# Altium footprint library IDC2.54.PcbLib: 17 footprints (part 1 of 2)
Each footprint in its own frame and in the unit in brackets; x right, y up, seen from the top. Pads: shape width x height; smd on the part's side, far side on the other; paste and mask are expansions set on the pad; w line width, h text height; cw(c..) or ccw(c..) is an arc to the next point about the centre after c.
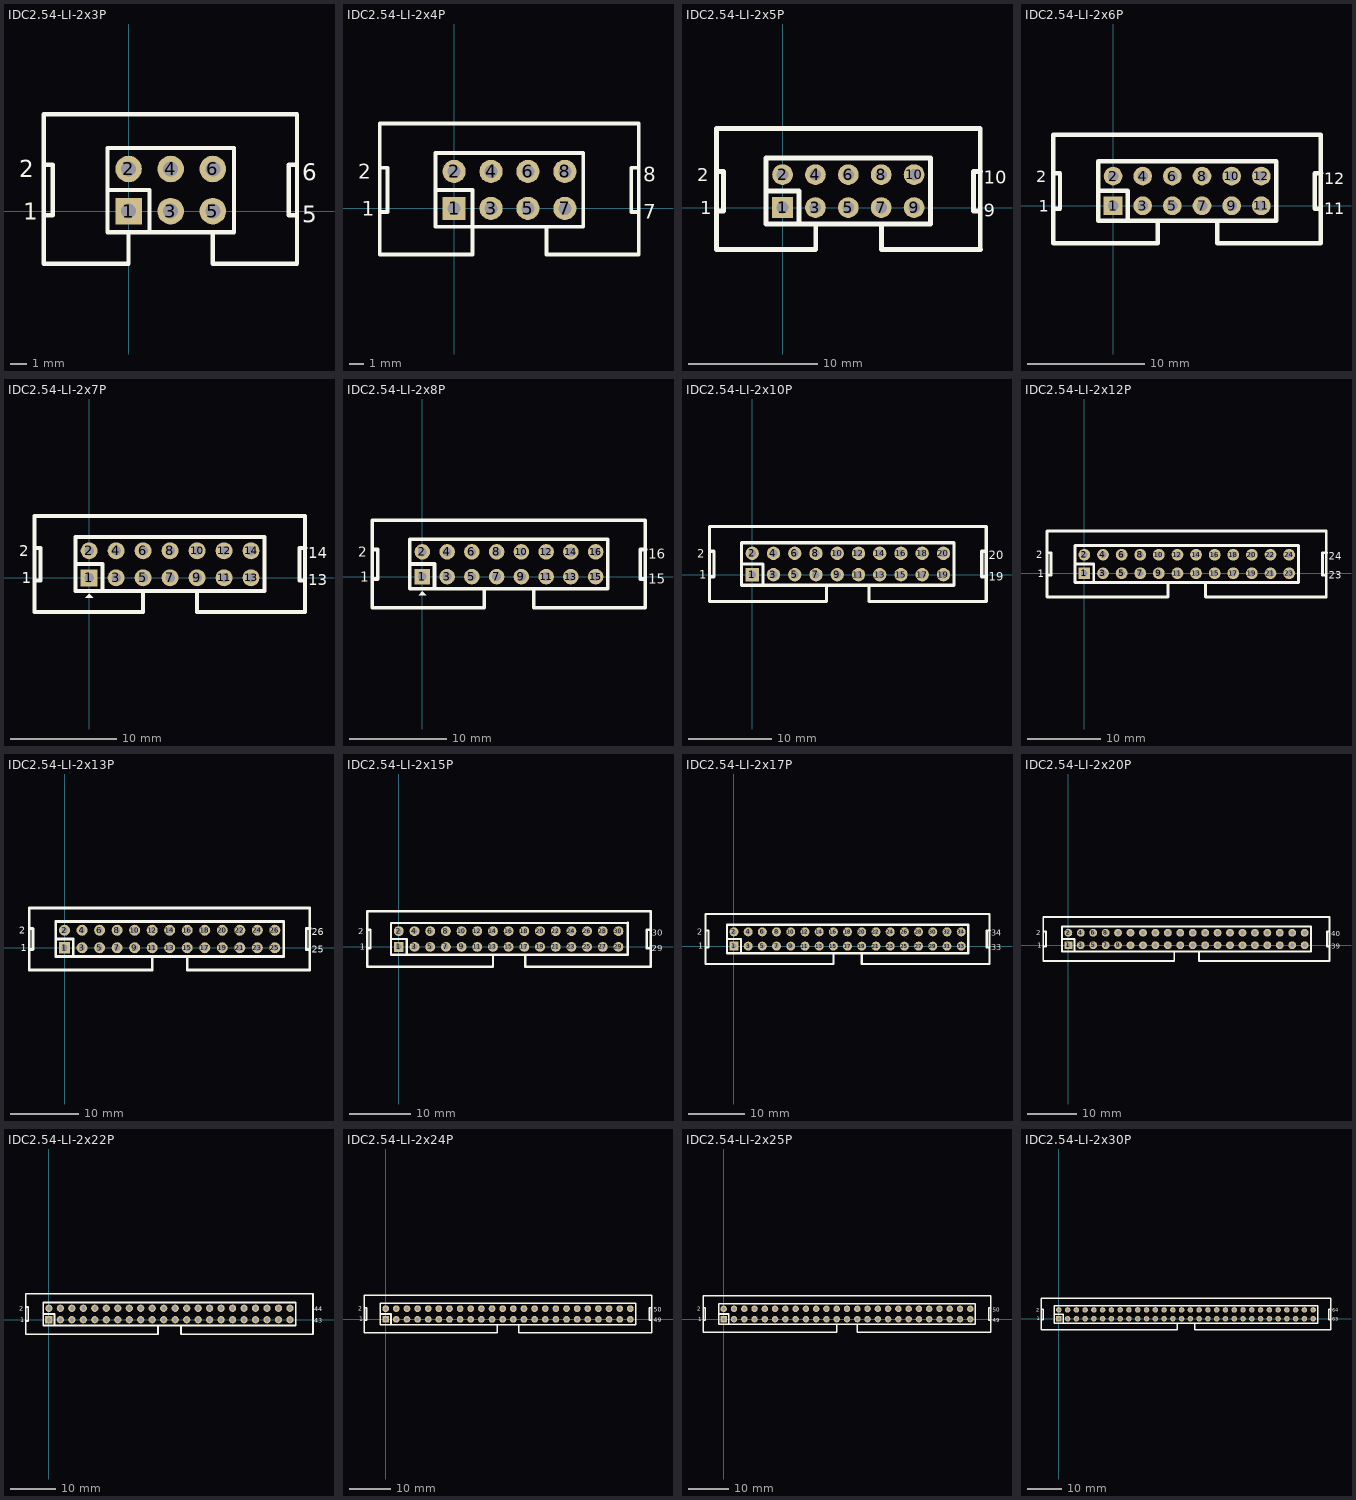
[diagram p0: the footprints below, top view; thin cyan lines are the x and y axes]

## IDC2.54-LI-2x3P [mm] "6P简易牛角座"
pads (6):
  rect 1.6x1.6 hole 0.9: 1(0,0)
  round 1.6 hole 0.9: 2(0,2.54) 3(2.54,0) 4(2.54,2.54) 5(5.08,0) 6(5.08,2.54)
Top Overlay:
  lines w0.254: -5.11,-0.254 -4.572,-0.254 -4.572,2.794 -5.08,2.794 ; -1.27,1.27 1.27,1.27 1.27,-1.27 ; 0,-1.27 0,-3.175 -5.11,-3.175 -5.11,5.842 10.16,5.842 10.16,-3.175 5.08,-3.175 5.08,-1.27 ; 10.033,2.794 9.652,2.794 9.652,-0.254 10.16,-0.254 ; -1.27,-1.27 6.35,-1.27 6.35,3.81 -1.27,3.81 -1.27,-1.27
  text "1" at -6.35,-0.508 h1.02
  text "2" at -6.604,2.032 h1.02
  text "6" at 10.465,1.829 h1.02
  text "5" at 10.465,-0.711 h1.02
Bottom Overlay:
  lines w0.6: -1.041,1.27 6.35,1.27 ; 1.27,-1.016 1.27,3.353 ; 3.81,-1.016 3.81,3.353
3D body: height 9.17, standoff -3, extent -5.08,-3.08 10.16,5.77

## IDC2.54-LI-2x4P [mm] "8P简易牛角座"
pads (8):
  rect 1.6x1.6 hole 0.9: 1(0,0)
  round 1.6 hole 0.9: 2(0,2.54) 3(2.54,0) 4(2.54,2.54) 5(5.08,0) 6(5.08,2.54) 7(7.62,0) 8(7.62,2.54)
Top Overlay:
  lines w0.254: -5.11,-0.254 -4.572,-0.254 -4.572,2.794 -5.08,2.794 ; -1.27,1.27 1.27,1.27 1.27,-1.27 1.27,-3.175 -5.11,-3.175 -5.11,5.842 12.7,5.842 12.7,-3.175 6.35,-3.175 6.35,-1.27 ; 12.573,2.794 12.192,2.794 12.192,-0.254 12.7,-0.254 ; -1.27,-1.27 8.89,-1.27 8.89,3.81 -1.27,3.81 -1.27,-1.27
  text "7" at 13.005,-0.711 h1.02
  text "8" at 13.005,1.829 h1.02
  text "1" at -6.35,-0.508 h1.02
  text "2" at -6.604,2.032 h1.02
Bottom Overlay:
  lines w0.6: -1.041,1.27 8.89,1.27 ; 1.27,-1.016 1.27,3.353 ; 3.81,-1.016 3.81,3.353 ; 6.35,-1.016 6.35,3.353
3D body: height 9.17, standoff -3, extent -5.08,-3.08 12.7,5.77

## IDC2.54-LI-2x5P [mm] "10P简易牛角座"
pads (10):
  rect 1.6x1.6 hole 0.9: 1(0,0)
  round 1.6 hole 0.9: 2(0,2.54) 3(2.54,0) 4(2.54,2.54) 5(5.08,0) 6(5.08,2.54) 7(7.62,0) 8(7.62,2.54) 9(10.16,0) 10(10.16,2.54)
Top Overlay:
  lines w0.381: -5.11,-0.254 -4.572,-0.254 -4.572,2.794 -5.08,2.794 ; -1.27,1.27 1.27,1.27 1.27,-1.27 ; 2.565,-1.27 2.565,-3.23 -5.11,-3.23 -5.11,6.096 15.265,6.096 15.265,-3.234 ; 7.645,-1.27 7.645,-3.23 15.27,-3.23 ; 15.24,-0.254 14.732,-0.254 14.732,2.794 15.27,2.794 ; -1.27,-1.27 11.43,-1.27 11.43,3.81 -1.27,3.81 -1.27,-1.27
  text "2" at -6.604,2.032 h1.02
  text "1" at -6.35,-0.508 h1.02
  text "9" at 15.545,-0.711 h1.02
  text "10" at 15.545,1.829 h1.02
Bottom Overlay:
  lines w0.6: -1.041,1.27 11,1.27 ; 1.27,-1.016 1.27,3.353 ; 3.81,-1.016 3.81,3.353 ; 6.35,-1.016 6.35,3.353 ; 8.89,-1.016 8.89,3.353
3D body: height 9.17, standoff -3, extent -5.08,-3.08 15.24,5.77

## IDC2.54-LI-2x6P [mm] "12P简易牛角座"
pads (12):
  rect 1.6x1.6 hole 0.9: 1(-0.025,0)
  round 1.6 hole 0.9: 2(-0.025,2.54) 3(2.515,0) 4(2.515,2.54) 5(5.055,0) 6(5.055,2.54) 7(7.595,0) 8(7.595,2.54) 9(10.135,0) 10(10.135,2.54) 11(12.675,0) 12(12.675,2.54)
Top Overlay:
  lines w0.254: -5.135,-0.254 -4.597,-0.254 -4.597,2.794 -5.105,2.794
  lines w0.381: -5.11,-0.254 -4.572,-0.254 -4.572,2.794 -5.08,2.794 ; -1.295,1.27 1.245,1.27 1.245,-1.27 ; 3.81,-1.27 3.81,-3.23 -5.135,-3.23 -5.135,6.096 17.78,6.096 17.78,-3.23 8.89,-3.23 8.89,-1.27 ; 17.78,-0.254 17.272,-0.254 17.272,2.794 17.81,2.794 ; -1.295,-1.27 13.945,-1.27 13.945,3.81 -1.295,3.81 -1.295,-1.27
  text "12" at 18.059,1.829 h1.02
  text "11" at 18.059,-0.711 h1.02
  text "2" at -6.629,2.032 h1.02
  text "1" at -6.375,-0.508 h1.02
Bottom Overlay:
  lines w0.6: -1.067,1.27 13.515,1.27 ; 1.245,-1.016 1.245,3.353 ; 3.785,-1.016 3.785,3.353 ; 6.325,-1.016 6.325,3.353 ; 8.865,-1.016 8.865,3.353 ; 11.405,-1.016 11.405,3.353
3D body: height 9.17, standoff -3, extent -5.105,-3.08 17.755,5.77

## IDC2.54-LI-2x7P [mm] "14P简易牛角座"
pads (14):
  rect 1.6x1.6 hole 0.9: 1(0,0)
  round 1.6 hole 0.9: 2(0,2.54) 3(2.54,0) 4(2.54,2.54) 5(5.08,0) 6(5.08,2.54) 7(7.62,0) 8(7.62,2.54) 9(10.16,0) 10(10.16,2.54) 11(12.7,0) 12(12.7,2.54) 13(15.24,0) 14(15.24,2.54)
Top Overlay:
  region: -0.381,-1.905 0.381,-1.905 0,-1.524
  lines w0.381: -5.11,-0.254 -4.572,-0.254 -4.572,2.794 -5.08,2.794 ; -1.295,1.295 1.245,1.295 1.245,-1.245 ; 5.08,-1.245 5.08,-3.205 -5.135,-3.205 -5.135,5.795 20.32,5.795 20.32,-3.205 10.16,-3.205 10.16,-1.245 ; 20.32,-0.254 19.812,-0.254 19.812,2.794 20.35,2.794 ; -1.295,-1.245 -1.295,3.835 16.51,3.835 16.51,-1.245 -1.295,-1.245
  text "2" at -6.604,2.032 h1.02
  text "1" at -6.35,-0.508 h1.02
  text "14" at 20.625,1.829 h1.02
  text "13" at 20.625,-0.711 h1.02
Bottom Overlay:
  lines w0.6: -1.041,1.27 16.51,1.27 ; 1.27,-0.813 1.27,3.556 ; 3.81,-0.813 3.81,3.556 ; 6.35,-0.813 6.35,3.556 ; 8.89,-0.813 8.89,3.556 ; 11.43,-0.813 11.43,3.556 ; 13.97,-0.813 13.97,3.556
3D body: height 9.17, standoff -3, extent -5.08,-3.08 20.32,5.77

## IDC2.54-LI-2x8P [mm] "16P简易牛角座"
pads (16):
  rect 1.6x1.6 hole 0.9: 1(0,0)
  round 1.6 hole 0.9: 2(0,2.54) 3(2.54,0) 4(2.54,2.54) 5(5.08,0) 6(5.08,2.54) 7(7.62,0) 8(7.62,2.54) 9(10.16,0) 10(10.16,2.54) 11(12.7,0) 12(12.7,2.54) 13(15.24,0) 14(15.24,2.54) 15(17.78,0) 16(17.78,2.54)
Top Overlay:
  region: -0.381,-1.905 0.381,-1.905 0,-1.524
  lines w0.381: -5.11,-0.254 -4.572,-0.254 -4.572,2.794 -5.08,2.794 ; -1.295,1.295 1.245,1.295 1.245,-1.245 ; 6.35,-1.245 6.35,-3.205 -5.135,-3.205 -5.135,5.795 22.865,5.795 22.865,-3.205 11.43,-3.205 11.43,-1.245 ; 22.86,-0.254 22.352,-0.254 22.352,2.794 22.89,2.794 ; -1.295,-1.245 -1.295,3.835 19.025,3.835 19.025,-1.245 -1.295,-1.245
  text "15" at 23.165,-0.711 h1.02
  text "16" at 23.165,1.829 h1.02
  text "1" at -6.35,-0.508 h1.02
  text "2" at -6.604,2.032 h1.02
Bottom Overlay:
  lines w0.6: -1.041,1.27 18.5,1.27 ; 1.27,-0.813 1.27,3.556 ; 3.81,-0.813 3.81,3.556 ; 6.35,-0.813 6.35,3.556 ; 8.89,-0.813 8.89,3.556 ; 11.43,-0.813 11.43,3.556 ; 13.97,-0.813 13.97,3.556 ; 16.51,-0.813 16.51,3.556
3D body: height 9.17, standoff -3, extent -5.08,-3.08 22.86,5.77

## IDC2.54-LI-2x10P [mm] "20P简易牛角座"
pads (20):
  rect 1.6x1.6 hole 0.9: 1(0,0)
  round 1.6 hole 0.9: 2(0,2.54) 3(2.54,0) 4(2.54,2.54) 5(5.08,0) 6(5.08,2.54) 7(7.62,0) 8(7.62,2.54) 9(10.16,0) 10(10.16,2.54) 11(12.7,0) 12(12.7,2.54) 13(15.24,0) 14(15.24,2.54) 15(17.78,0) 16(17.78,2.54) 17(20.32,0) 18(20.32,2.54) 19(22.86,0) 20(22.86,2.54)
Top Overlay:
  lines w0.381: -5.11,-0.254 -4.572,-0.254 -4.572,2.794 -5.08,2.794 ; -1.27,1.27 1.27,1.27 1.27,-1.27 ; 8.89,-1.27 8.89,-3.23 -5.11,-3.23 -5.11,5.77 27.97,5.77 27.97,-3.23 13.97,-3.23 13.97,-1.27 ; 27.94,-0.254 27.432,-0.254 27.432,2.794 27.97,2.794 ; -1.27,-1.27 24.13,-1.27 24.13,3.81 -1.27,3.81 -1.27,-1.27
  text "19" at 28.245,-0.711 h1.02
  text "20" at 28.245,1.829 h1.02
  text "1" at -6.35,-0.508 h1.02
  text "2" at -6.604,2.032 h1.02
Bottom Overlay:
  lines w0.6: -1.041,1.27 23.5,1.27 ; 1.27,-0.813 1.27,3.556 ; 3.81,-0.813 3.81,3.556 ; 6.35,-0.813 6.35,3.556 ; 8.89,-0.813 8.89,3.556 ; 11.43,-0.813 11.43,3.556 ; 13.97,-0.813 13.97,3.556 ; 16.51,-0.813 16.51,3.556 ; 19.05,-0.813 19.05,3.556 ; 21.59,-0.813 21.59,3.556
3D body: height 9.17, standoff -3, extent -5.08,-3.08 27.94,5.77

## IDC2.54-LI-2x12P [mm] "24P简易牛角座"
pads (24):
  rect 1.6x1.6 hole 0.9: 1(0,0)
  round 1.6 hole 0.9: 2(0,2.54) 3(2.54,0) 4(2.54,2.54) 5(5.08,0) 6(5.08,2.54) 7(7.62,0) 8(7.62,2.54) 9(10.16,0) 10(10.16,2.54) 11(12.7,0) 12(12.7,2.54) 13(15.24,0) 14(15.24,2.54) 15(17.78,0) 16(17.78,2.54) 17(20.32,0) 18(20.32,2.54) 19(22.86,0) 20(22.86,2.54) 21(25.4,0) 22(25.4,2.54) 23(27.94,0) 24(27.94,2.54)
Top Overlay:
  lines w0.381: -5.11,-0.254 -4.572,-0.254 -4.572,2.794 -5.08,2.794 ; -1.27,1.27 1.27,1.27 1.27,-1.27 ; 11.43,-1.27 11.43,-3.23 -5.11,-3.23 -5.11,5.77 33.02,5.77 33.02,-3.23 16.51,-3.23 16.51,-1.27 ; 29.207,3.81 -1.27,3.81 -1.27,-1.27 29.21,-1.27 29.21,3.813 ; 33.02,-0.254 32.512,-0.254 32.512,2.794 33.05,2.794
  text "23" at 33.325,-0.711 h1.02
  text "24" at 33.325,1.829 h1.02
  text "1" at -6.35,-0.508 h1.02
  text "2" at -6.604,2.032 h1.02
Bottom Overlay:
  lines w0.6: -1.041,1.27 28.5,1.27 ; 1.27,-0.813 1.27,3.556 ; 3.81,-0.813 3.81,3.556 ; 6.35,-0.813 6.35,3.556 ; 8.89,-0.813 8.89,3.556 ; 11.43,-0.813 11.43,3.556 ; 13.97,-0.813 13.97,3.556 ; 16.51,-0.813 16.51,3.556 ; 19.05,-0.813 19.05,3.556 ; 21.59,-0.813 21.59,3.556 ; 24.13,-0.813 24.13,3.556 ; 26.67,-0.813 26.67,3.556
3D body: height 9.17, standoff -3, extent -5.08,-3.08 33.02,5.77

## IDC2.54-LI-2x13P [mm] "26P简易牛角座"
pads (26):
  rect 1.6x1.6 hole 0.9: 1(0,0)
  round 1.6 hole 0.9: 2(0,2.54) 3(2.54,0) 4(2.54,2.54) 5(5.08,0) 6(5.08,2.54) 7(7.62,0) 8(7.62,2.54) 9(10.16,0) 10(10.16,2.54) 11(12.7,0) 12(12.7,2.54) 13(15.24,0) 14(15.24,2.54) 15(17.78,0) 16(17.78,2.54) 17(20.32,0) 18(20.32,2.54) 19(22.86,0) 20(22.86,2.54) 21(25.4,0) 22(25.4,2.54) 23(27.94,0) 24(27.94,2.54) 25(30.48,0) 26(30.48,2.54)
Top Overlay:
  lines w0.381: -5.11,-0.254 -4.572,-0.254 -4.572,2.794 -5.08,2.794 ; -1.27,1.27 1.27,1.27 1.27,-1.27 ; 12.7,-1.27 12.7,-3.23 -5.11,-3.23 -5.11,5.77 35.56,5.77 35.56,-3.23 17.78,-3.23 17.78,-1.27 ; 35.56,-0.254 35.052,-0.254 35.052,2.794 35.59,2.794 ; -1.27,-1.27 -1.27,3.81 31.75,3.81 31.75,-1.27 -1.27,-1.27
  text "25" at 35.865,-0.711 h1.02
  text "26" at 35.865,1.829 h1.02
  text "1" at -6.35,-0.508 h1.02
  text "2" at -6.604,2.032 h1.02
Bottom Overlay:
  lines w0.6: -1.041,1.27 31,1.27 ; 1.27,-0.813 1.27,3.556 ; 3.81,-0.813 3.81,3.556 ; 6.35,-0.813 6.35,3.556 ; 8.89,-0.813 8.89,3.556 ; 11.43,-0.813 11.43,3.556 ; 13.97,-0.813 13.97,3.556 ; 16.51,-0.813 16.51,3.556 ; 19.05,-0.813 19.05,3.556 ; 21.59,-0.813 21.59,3.556 ; 24.13,-0.813 24.13,3.556 ; 26.67,-0.813 26.67,3.556 ; 29.21,-0.813 29.21,3.556
3D body: height 9.17, standoff -3, extent -5.08,-3.08 35.56,5.77

## IDC2.54-LI-2x15P [mm] "30P简易牛角座"
pads (30):
  rect 1.6x1.6 hole 0.9: 1(0,0)
  round 1.6 hole 0.9: 2(0,2.54) 3(2.54,0) 4(2.54,2.54) 5(5.08,0) 6(5.08,2.54) 7(7.62,0) 8(7.62,2.54) 9(10.16,0) 10(10.16,2.54) 11(12.7,0) 12(12.7,2.54) 13(15.24,0) 14(15.24,2.54) 15(17.78,0) 16(17.78,2.54) 17(20.32,0) 18(20.32,2.54) 19(22.86,0) 20(22.86,2.54) 21(25.4,0) 22(25.4,2.54) 23(27.94,0) 24(27.94,2.54) 25(30.48,0) 26(30.48,2.54) 27(33.02,0) 28(33.02,2.54) 29(35.56,0) 30(35.56,2.54)
Top Overlay:
  lines w0.381: -5.11,-0.254 -4.572,-0.254 -4.572,2.794 -5.08,2.794 ; -1.27,1.27 1.27,1.27 1.27,-1.27 ; 15.24,-1.27 15.24,-3.23 -5.11,-3.23 -5.11,5.77 40.767,5.77 40.767,-3.23 20.447,-3.23 20.447,-1.27 ; 40.64,-0.254 40.132,-0.254 40.132,2.794 40.67,2.794 ; -1.27,-1.27 -1.27,3.81 37.084,3.912 37.084,-1.27 -1.27,-1.27
  text "2" at -6.604,2.032 h1.02
  text "1" at -6.35,-0.508 h1.02
  text "30" at 40.945,1.829 h1.02
  text "29" at 40.945,-0.711 h1.02
Bottom Overlay:
  lines w0.6: -1.041,1.27 36,1.27 ; 1.27,-0.813 1.27,3.556 ; 3.81,-0.813 3.81,3.556 ; 6.35,-0.813 6.35,3.556 ; 8.89,-0.813 8.89,3.556 ; 11.43,-0.813 11.43,3.556 ; 13.97,-0.813 13.97,3.556 ; 16.51,-0.813 16.51,3.556 ; 19.05,-0.813 19.05,3.556 ; 21.59,-0.813 21.59,3.556 ; 24.13,-0.813 24.13,3.556 ; 26.67,-0.813 26.67,3.556 ; 29.21,-0.813 29.21,3.556 ; 31.75,-0.813 31.75,3.556 ; 34.29,-0.813 34.29,3.556
3D body: height 9.17, standoff -3, extent -5.08,-3.08 40.64,5.77

## IDC2.54-LI-2x17P [mm] "34P简易牛角座"
pads (34):
  rect 1.6x1.6 hole 0.9: 1(0,0)
  round 1.6 hole 0.9: 2(0,2.54) 3(2.54,0) 4(2.54,2.54) 5(5.08,0) 6(5.08,2.54) 7(7.62,0) 8(7.62,2.54) 9(10.16,0) 10(10.16,2.54) 11(12.7,0) 12(12.7,2.54) 13(15.24,0) 14(15.24,2.54) 15(17.78,0) 16(17.78,2.54) 17(20.32,0) 18(20.32,2.54) 19(22.86,0) 20(22.86,2.54) 21(25.4,0) 22(25.4,2.54) 23(27.94,0) 24(27.94,2.54) 25(30.48,0) 26(30.48,2.54) 27(33.02,0) 28(33.02,2.54) 29(35.56,0) 30(35.56,2.54) 31(38.1,0) 32(38.1,2.54) 33(40.64,0) 34(40.64,2.54)
Top Overlay:
  lines w0.381: -5.11,-0.254 -4.572,-0.254 -4.572,2.794 -5.08,2.794 ; -1.27,1.27 1.27,1.27 1.27,-1.27 ; 17.78,-1.27 17.78,-3.23 -5.11,-3.23 -5.11,5.77 45.72,5.77 45.72,-3.23 22.86,-3.23 22.86,-1.27 ; 45.72,-0.254 45.212,-0.254 45.212,2.794 45.75,2.794 ; -1.27,-1.27 -1.27,3.81 41.91,3.81 41.91,-1.27 -1.27,-1.27
  text "2" at -6.604,2.032 h1.02
  text "1" at -6.35,-0.508 h1.02
  text "34" at 46.025,1.829 h1.02
  text "33" at 46.025,-0.711 h1.02
Bottom Overlay:
  lines w0.6: -1.041,1.27 41.47,1.27 ; 1.27,-0.813 1.27,3.556 ; 3.81,-0.813 3.81,3.556 ; 6.35,-0.813 6.35,3.556 ; 8.89,-0.813 8.89,3.556 ; 11.43,-0.813 11.43,3.556 ; 13.97,-0.813 13.97,3.556 ; 16.51,-0.813 16.51,3.556 ; 19.05,-0.813 19.05,3.556 ; 21.59,-0.813 21.59,3.556 ; 24.13,-0.813 24.13,3.556 ; 26.67,-0.813 26.67,3.556 ; 29.21,-0.813 29.21,3.556 ; 31.75,-0.813 31.75,3.556 ; 34.29,-0.813 34.29,3.556 ; 36.83,-0.813 36.83,3.556 ; 39.37,-0.813 39.37,3.556
3D body: height 9.17, standoff -3, extent -5.08,-3.08 45.72,5.77

## IDC2.54-LI-2x20P [mm] "40P简易牛角座"
pads (40):
  rect 1.6x1.6 hole 0.9: 1(0,0)
  round 1.6 hole 0.9: 2(0,2.54) 3(2.54,0) 4(2.54,2.54) 5(5.08,0) 6(5.08,2.54) 7(7.62,0) 8(7.62,2.54) 9(10.16,0) 10(10.16,2.54) 11(12.7,0) 12(12.7,2.54) 13(15.24,0) 14(15.24,2.54) 15(17.78,0) 16(17.78,2.54) 17(20.32,0) 18(20.32,2.54) 19(22.86,0) 20(22.86,2.54) 21(25.4,0) 22(25.4,2.54) 23(27.94,0) 24(27.94,2.54) 25(30.48,0) 26(30.48,2.54) 27(33.02,0) 28(33.02,2.54) 29(35.56,0) 30(35.56,2.54) 31(38.1,0) 32(38.1,2.54) 33(40.64,0) 34(40.64,2.54) 35(43.18,0) 36(43.18,2.54) 37(45.72,0) 38(45.72,2.54) 39(48.26,0) 40(48.26,2.54)
Top Overlay:
  lines w0.381: -5.11,-0.254 -4.572,-0.254 -4.572,2.794 -5.08,2.794 ; -1.27,1.27 1.27,1.27 1.27,-1.27 ; 21.615,-1.27 21.615,-3.23 -5.11,-3.23 -5.11,5.77 53.37,5.77 53.37,-3.23 ; 26.695,-1.27 26.695,-3.23 53.365,-3.23 ; 49.479,-1.27 -1.27,-1.27 -1.27,3.81 49.53,3.81 ; 49.53,1.27 49.53,-1.27 ; 53.34,-0.254 52.832,-0.254 52.832,2.794 53.37,2.794 ; 49.53,-1.27 49.53,3.81 ; 49.53,-1.27 49.53,3.81
  text "2" at -6.604,2.032 h1.02
  text "1" at -6.35,-0.508 h1.02
  text "40" at 53.645,1.829 h1.02
  text "39" at 53.645,-0.711 h1.02
Bottom Overlay:
  lines w0.6: -1.041,1.27 48.62,1.27 ; 1.27,-0.813 1.27,3.556 ; 3.81,-0.813 3.81,3.556 ; 6.35,-0.813 6.35,3.556 ; 8.89,-0.813 8.89,3.556 ; 11.43,-0.813 11.43,3.556 ; 13.97,-0.813 13.97,3.556 ; 16.51,-0.813 16.51,3.556 ; 19.05,-0.813 19.05,3.556 ; 21.59,-0.813 21.59,3.556 ; 24.13,-0.813 24.13,3.556 ; 26.67,-0.813 26.67,3.556 ; 29.21,-0.813 29.21,3.556 ; 31.75,-0.813 31.75,3.556 ; 34.29,-0.813 34.29,3.556 ; 36.83,-0.813 36.83,3.556 ; 39.37,-0.813 39.37,3.556 ; 41.91,-0.813 41.91,3.556 ; 44.45,-0.813 44.45,3.556 ; 46.99,-0.838 46.99,3.531
3D body: height 9.17, standoff -3, extent -5.08,-3.08 53.34,5.77

## IDC2.54-LI-2x22P [mm] "44P简易牛角座"
pads (44):
  rect 1.6x1.6 hole 0.9: 1(0,0)
  round 1.6 hole 0.9: 2(0,2.54) 3(2.54,0) 4(2.54,2.54) 5(5.08,0) 6(5.08,2.54) 7(7.62,0) 8(7.62,2.54) 9(10.16,0) 10(10.16,2.54) 11(12.7,0) 12(12.7,2.54) 13(15.24,0) 14(15.24,2.54) 15(17.78,0) 16(17.78,2.54) 17(20.32,0) 18(20.32,2.54) 19(22.86,0) 20(22.86,2.54) 21(25.4,0) 22(25.4,2.54) 23(27.94,0) 24(27.94,2.54) 25(30.48,0) 26(30.48,2.54) 27(33.02,0) 28(33.02,2.54) 29(35.56,0) 30(35.56,2.54) 31(38.1,0) 32(38.1,2.54) 33(40.64,0) 34(40.64,2.54) 35(43.18,0) 36(43.18,2.54) 37(45.72,0) 38(45.72,2.54) 39(48.26,0) 40(48.26,2.54) 41(50.8,0) 42(50.8,2.54) 43(53.34,0) 44(53.34,2.54)
Top Overlay:
  lines w0.381: -5.11,-0.254 -4.572,-0.254 -4.572,2.794 -5.08,2.794 ; -1.27,1.27 1.27,1.27 1.27,-1.27 ; 24.155,-1.27 24.155,-3.23 -5.11,-3.23 -5.11,5.77 58.42,5.77 58.42,-3.23 29.235,-3.23 29.235,-1.27 ; -1.27,-1.27 -1.27,3.81 54.61,3.81 54.61,-1.27 -1.27,-1.27
  text "43" at 58.725,-0.711 h1.02
  text "44" at 58.725,1.829 h1.02
  text "1" at -6.35,-0.508 h1.02
  text "2" at -6.604,2.032 h1.02
Bottom Overlay:
  lines w0.6: -1.041,1.27 54.208,1.27 ; 1.27,-0.813 1.27,3.556 ; 3.81,-0.813 3.81,3.556 ; 6.35,-0.813 6.35,3.556 ; 8.89,-0.813 8.89,3.556 ; 11.43,-0.813 11.43,3.556 ; 13.97,-0.813 13.97,3.556 ; 16.51,-0.813 16.51,3.556 ; 19.05,-0.813 19.05,3.556 ; 21.59,-0.813 21.59,3.556 ; 24.13,-0.813 24.13,3.556 ; 26.67,-0.813 26.67,3.556 ; 29.21,-0.813 29.21,3.556 ; 31.75,-0.813 31.75,3.556 ; 34.29,-0.813 34.29,3.556 ; 36.83,-0.813 36.83,3.556 ; 39.37,-0.813 39.37,3.556 ; 41.91,-0.813 41.91,3.556 ; 44.45,-0.813 44.45,3.556 ; 46.99,-0.838 46.99,3.531 ; 49.53,-0.838 49.53,3.531 ; 52.07,-0.838 52.07,3.531
3D body: height 9.17, standoff -3, extent -5.08,-3.08 58.42,5.77

## IDC2.54-LI-2x24P [mm] "48P简易牛角座"
pads (48):
  rect 1.6x1.6 hole 0.9: 1(0,0)
  round 1.6 hole 0.9: 2(0,2.54) 3(2.54,0) 4(2.54,2.54) 5(5.08,0) 6(5.08,2.54) 7(7.62,0) 8(7.62,2.54) 9(10.16,0) 10(10.16,2.54) 11(12.7,0) 12(12.7,2.54) 13(15.24,0) 14(15.24,2.54) 15(17.78,0) 16(17.78,2.54) 17(20.32,0) 18(20.32,2.54) 19(22.86,0) 20(22.86,2.54) 21(25.4,0) 22(25.4,2.54) 23(27.94,0) 24(27.94,2.54) 25(30.48,0) 26(30.48,2.54) 27(33.02,0) 28(33.02,2.54) 29(35.56,0) 30(35.56,2.54) 31(38.1,0) 32(38.1,2.54) 33(40.64,0) 34(40.64,2.54) 35(43.18,0) 36(43.18,2.54) 37(45.72,0) 38(45.72,2.54) 39(48.26,0) 40(48.26,2.54) 41(50.8,0) 42(50.8,2.54) 43(53.34,0) 44(53.34,2.54) 45(55.88,0) 46(55.88,2.54) 47(58.42,0) 48(58.42,2.54)
Top Overlay:
  lines w0.381: -5.11,-0.254 -4.572,-0.254 -4.572,2.794 -5.08,2.794 ; -1.27,1.27 1.27,1.27 1.27,-1.27 ; 26.67,-1.27 26.67,-3.23 -5.11,-3.23 -5.11,5.77 63.5,5.77 63.5,-3.23 31.75,-3.23 31.75,-1.27 ; 63.5,-0.254 62.992,-0.254 62.992,2.794 63.53,2.794 ; -1.27,-1.27 49.479,-1.27 59.69,-1.27 59.69,3.81 49.53,3.81 -1.27,3.81 -1.27,-1.27
  text "49" at 64.008,-0.711 h1.02
  text "50" at 64.008,1.829 h1.02
  text "2" at -6.604,2.032 h1.02
  text "1" at -6.35,-0.508 h1.02
Bottom Overlay:
  lines w0.6: -1.041,1.27 59.436,1.27 ; 1.27,-0.813 1.27,3.556 ; 3.81,-0.813 3.81,3.556 ; 6.35,-0.813 6.35,3.556 ; 8.89,-0.813 8.89,3.556 ; 11.43,-0.813 11.43,3.556 ; 13.97,-0.813 13.97,3.556 ; 16.51,-0.813 16.51,3.556 ; 19.05,-0.813 19.05,3.556 ; 21.59,-0.813 21.59,3.556 ; 24.13,-0.813 24.13,3.556 ; 26.67,-0.813 26.67,3.556 ; 29.21,-0.813 29.21,3.556 ; 31.75,-0.813 31.75,3.556 ; 34.29,-0.813 34.29,3.556 ; 36.83,-0.813 36.83,3.556 ; 39.37,-0.813 39.37,3.556 ; 41.91,-0.813 41.91,3.556 ; 44.45,-0.813 44.45,3.556 ; 46.99,-0.838 46.99,3.531 ; 49.53,-0.813 49.53,3.556 ; 52.07,-0.813 52.07,3.556 ; 54.61,-0.813 54.61,3.556 ; 57.15,-0.813 57.15,3.556
3D body: height 9.17, standoff -8, extent -5.08,-3.08 63.5,5.77

## IDC2.54-LI-2x25P [mm] "50P简易牛角座"
pads (50):
  rect 1.6x1.6 hole 0.9: 1(0,0)
  round 1.6 hole 0.9: 2(0,2.54) 3(2.54,0) 4(2.54,2.54) 5(5.08,0) 6(5.08,2.54) 7(7.62,0) 8(7.62,2.54) 9(10.16,0) 10(10.16,2.54) 11(12.7,0) 12(12.7,2.54) 13(15.24,0) 14(15.24,2.54) 15(17.78,0) 16(17.78,2.54) 17(20.32,0) 18(20.32,2.54) 19(22.86,0) 20(22.86,2.54) 21(25.4,0) 22(25.4,2.54) 23(27.94,0) 24(27.94,2.54) 25(30.48,0) 26(30.48,2.54) 27(33.02,0) 28(33.02,2.54) 29(35.56,0) 30(35.56,2.54) 31(38.1,0) 32(38.1,2.54) 33(40.64,0) 34(40.64,2.54) 35(43.18,0) 36(43.18,2.54) 37(45.72,0) 38(45.72,2.54) 39(48.26,0) 40(48.26,2.54) 41(50.8,0) 42(50.8,2.54) 43(53.34,0) 44(53.34,2.54) 45(55.88,0) 46(55.88,2.54) 47(58.42,0) 48(58.42,2.54) 49(60.96,0) 50(60.96,2.54)
Top Overlay:
  lines w0.381: -5.11,-0.254 -4.572,-0.254 -4.572,2.794 -5.08,2.794 ; -1.27,1.27 1.27,1.27 1.27,-1.27 ; 27.94,-1.27 27.94,-3.23 -5.11,-3.23 -5.11,5.77 66.04,5.77 66.04,-3.23 33.02,-3.23 33.02,-1.27 ; 66.04,-0.254 65.532,-0.254 65.532,2.794 66.07,2.794 ; -1.27,-1.27 49.479,-1.27 62.23,-1.27 62.23,3.81 49.53,3.81 -1.27,3.81 -1.27,-1.27
  text "2" at -6.604,2.032 h1.02
  text "1" at -6.35,-0.508 h1.02
  text "50" at 66.548,1.829 h1.02
  text "49" at 66.548,-0.711 h1.02
Bottom Overlay:
  lines w0.6: -1.041,1.27 61.976,1.27 ; 1.27,-0.813 1.27,3.556 ; 3.81,-0.813 3.81,3.556 ; 6.35,-0.813 6.35,3.556 ; 8.89,-0.813 8.89,3.556 ; 11.43,-0.813 11.43,3.556 ; 13.97,-0.813 13.97,3.556 ; 16.51,-0.813 16.51,3.556 ; 19.05,-0.813 19.05,3.556 ; 21.59,-0.813 21.59,3.556 ; 24.13,-0.813 24.13,3.556 ; 26.67,-0.813 26.67,3.556 ; 29.21,-0.813 29.21,3.556 ; 31.75,-0.813 31.75,3.556 ; 34.29,-0.813 34.29,3.556 ; 36.83,-0.813 36.83,3.556 ; 39.37,-0.813 39.37,3.556 ; 41.91,-0.813 41.91,3.556 ; 44.45,-0.813 44.45,3.556 ; 46.99,-0.838 46.99,3.531 ; 49.53,-0.813 49.53,3.556 ; 52.07,-0.813 52.07,3.556 ; 54.61,-0.813 54.61,3.556 ; 57.15,-0.813 57.15,3.556 ; 59.69,-0.838 59.69,3.531
3D body: height 9.17, standoff -3, extent -5.08,-3.08 66.04,5.77

## IDC2.54-LI-2x30P [mm] "60P简易牛角座"
pads (60):
  rect 1.6x1.6 hole 0.9: 1(0,0)
  round 1.6 hole 0.9: 2(0,2.54) 3(2.54,0) 4(2.54,2.54) 5(5.08,0) 6(5.08,2.54) 7(7.62,0) 8(7.62,2.54) 9(10.16,0) 10(10.16,2.54) 11(12.7,0) 12(12.7,2.54) 13(15.24,0) 14(15.24,2.54) 15(17.78,0) 16(17.78,2.54) 17(20.32,0) 18(20.32,2.54) 19(22.86,0) 20(22.86,2.54) 21(25.4,0) 22(25.4,2.54) 23(27.94,0) 24(27.94,2.54) 25(30.48,0) 26(30.48,2.54) 27(33.02,0) 28(33.02,2.54) 29(35.56,0) 30(35.56,2.54) 31(38.1,0) 32(38.1,2.54) 33(40.64,0) 34(40.64,2.54) 35(43.18,0) 36(43.18,2.54) 37(45.72,0) 38(45.72,2.54) 39(48.26,0) 40(48.26,2.54) 41(50.8,0) 42(50.8,2.54) 43(53.34,0) 44(53.34,2.54) 45(55.88,0) 46(55.88,2.54) 47(58.42,0) 48(58.42,2.54) 49(60.96,0) 50(60.96,2.54) 51(63.5,0) 52(63.5,2.54) 53(66.04,0) 54(66.04,2.54) 55(68.58,0) 56(68.58,2.54) 57(71.12,0) 58(71.12,2.54) 59(73.66,0) 60(73.66,2.54)
Top Overlay:
  lines w0.381: -5.11,-0.254 -4.572,-0.254 -4.572,2.794 -5.08,2.794 ; -1.27,1.27 1.27,1.27 1.27,-1.27 ; 34.29,-1.27 34.29,-3.23 -5.11,-3.23 -5.11,5.969 78.704,5.969 78.704,-3.175 39.37,-3.175 39.37,-1.27 ; 78.74,-0.254 78.232,-0.254 78.232,2.794 78.77,2.794 ; -1.27,-1.27 49.479,-1.27 74.93,-1.27 74.93,3.81 49.53,3.81 -1.27,3.81 -1.27,-1.27
  text "2" at -6.604,2.032 h1.02
  text "1" at -6.35,-0.508 h1.02
  text "63" at 79.248,-0.584 h1.02
  text "64" at 79.248,1.956 h1.02
Bottom Overlay:
  lines w0.6: -1.041,1.27 74.676,1.27 ; 1.27,-0.813 1.27,3.556 ; 3.81,-0.813 3.81,3.556 ; 6.35,-0.813 6.35,3.556 ; 8.89,-0.813 8.89,3.556 ; 11.43,-0.813 11.43,3.556 ; 13.97,-0.813 13.97,3.556 ; 16.51,-0.813 16.51,3.556 ; 19.05,-0.813 19.05,3.556 ; 21.59,-0.813 21.59,3.556 ; 24.13,-0.813 24.13,3.556 ; 26.67,-0.813 26.67,3.556 ; 29.21,-0.813 29.21,3.556 ; 31.75,-0.813 31.75,3.556 ; 34.29,-0.813 34.29,3.556 ; 36.83,-0.813 36.83,3.556 ; 39.37,-0.813 39.37,3.556 ; 41.91,-0.813 41.91,3.556 ; 44.45,-0.813 44.45,3.556 ; 46.99,-0.838 46.99,3.531 ; 49.53,-0.813 49.53,3.556 ; 52.07,-0.813 52.07,3.556 ; 54.61,-0.813 54.61,3.556 ; 57.15,-0.813 57.15,3.556 ; 59.69,-0.838 59.69,3.531 ; 62.23,-0.813 62.23,3.556 ; 64.77,-0.838 64.77,3.531 ; 67.31,-0.813 67.31,3.556 ; 69.85,-0.813 69.85,3.556 ; 72.39,-0.813 72.39,3.556
3D body: height 9.17, standoff -3, extent -5.08,-3.08 78.74,5.77